# Altium footprint library PMEG1020EH.PcbLib: 3 footprints
Each footprint in its own frame and in the unit in brackets; x right, y up, seen from the top. Pads: shape width x height; smd on the part's side, far side on the other; paste and mask are expansions set on the pad; w line width, h text height; cw(c..) or ccw(c..) is an arc to the next point about the centre after c.
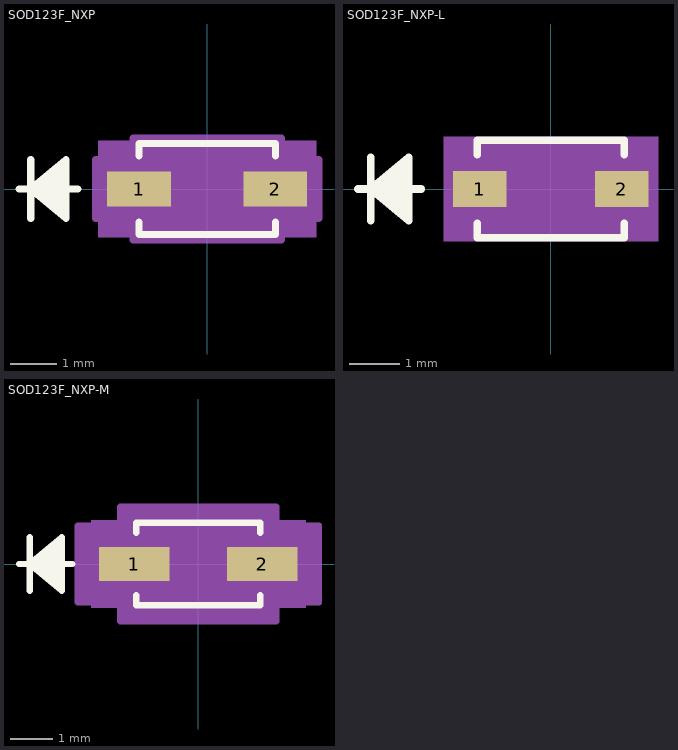
[diagram p0: the footprints below, top view; thin cyan lines are the x and y axes]

## SOD123F_NXP [mil]
pads (2):
  rect 54x30 smd paste+0 mask+0: 1(-58,0) 2(58,0)
Top Overlay:
  lines w6: -160,0 -110,0 ; -150,-25 -150,25 ; -120,-20 -150,0 ; -120,-15 -150,0 ; -120,-10 -150,0 ; -120,-5 -150,0 ; -120,5 -150,0 ; -120,10 -150,0 ; -120,15 -150,0 ; -120,20 -150,0 ; -58,-28.1 -58,-38.5 58,-38.5 58,-28.1 ; -58,28.1 -58,38.5 58,38.5 58,28.1 ; -150,0 -120,25 -120,-25 -150,0
Mechanical 5:
  region: 92.5,-41 -92.5,-41 -92.5,41 92.5,41
Mechanical 13:
  lines w1: -160,0 -110,0 ; -150,-25 -150,25 ; -120,-20 -150,0 ; -120,-15 -150,0 ; -120,-10 -150,0 ; -120,-5 -150,0 ; -120,5 -150,0 ; -120,10 -150,0 ; -120,15 -150,0 ; -120,20 -150,0 ; -53,-16.75 -36.25,-33.5 ; -53,16.75 -36.25,33.5 ; -150,0 -120,25 -120,-25 -150,0 ; -71,-14 -71,14 -53,14 -53,-14 -71,-14 ; -53,-33.5 53,-33.5 53,33.5 -53,33.5 -53,-33.5 ; 53,-14 53,14 71,14 71,-14 53,-14
Mechanical 15:
  region: -63,-25 -95,-25 -95,25 -63,25 -63,43.5 63,43.5 63,25 95,25 95,-25 63,-25 63,-43.5 -63,-43.5
  lines w6: -95,-25 -95,25 -63,25 -63,43.5 63,43.5 63,25 95,25 95,-25 63,-25 63,-43.5 -63,-43.5 -63,-25 -95,-25
3D body "SOD123F_NXP.step": height 47.09, standoff 0, extent -70.98,-33.5 70.98,33.5

## SOD123F_NXP-L [mil]
pads (2):
  rect 42x28 smd paste+0 mask+0: 1(-56,0) 2(56,0)
Top Overlay:
  lines w6: -152,0 -102,0 ; -142,-25 -142,25 ; -112,-20 -142,0 ; -112,-15 -142,0 ; -112,-10 -142,0 ; -112,-5 -142,0 ; -112,5 -142,0 ; -112,10 -142,0 ; -112,15 -142,0 ; -112,20 -142,0 ; -58,-27.1 -58,-38.5 58,-38.5 58,-27.1 ; -58,27.1 -58,38.5 58,38.5 58,27.1 ; -142,0 -112,25 -112,-25 -142,0
Mechanical 5:
  region: 84.5,-41 -84.5,-41 -84.5,41 84.5,41
Mechanical 13:
  lines w1: -152,0 -102,0 ; -142,-25 -142,25 ; -112,-20 -142,0 ; -112,-15 -142,0 ; -112,-10 -142,0 ; -112,-5 -142,0 ; -112,5 -142,0 ; -112,10 -142,0 ; -112,15 -142,0 ; -112,20 -142,0 ; -53,-16.75 -36.25,-33.5 ; -53,16.75 -36.25,33.5 ; -142,0 -112,25 -112,-25 -142,0 ; -71,-14 -71,14 -53,14 -53,-14 -71,-14 ; -53,-33.5 53,-33.5 53,33.5 -53,33.5 -53,-33.5 ; 53,-14 53,14 71,14 71,-14 53,-14
Mechanical 15:
  region: -57,-18 -81,-18 -81,18 -57,18 -57,37.5 57,37.5 57,18 81,18 81,-18 57,-18 57,-37.5 -57,-37.5
  lines w6: -81,-18 -81,18 -57,18 -57,37.5 57,37.5 57,18 81,18 81,-18 57,-18 57,-37.5 -57,-37.5 -57,-18 -81,-18
3D body "SOD123F_NXP.step": height 47.09, standoff 0, extent -70.98,-33.5 70.98,33.5

## SOD123F_NXP-M [mil]
pads (2):
  rect 66x32 smd paste+0 mask+0: 1(-60,0) 2(60,0)
Top Overlay:
  lines w6: -168,0 -118,0 ; -158,-25 -158,25 ; -128,-20 -158,0 ; -128,-15 -158,0 ; -128,-10 -158,0 ; -128,-5 -158,0 ; -128,5 -158,0 ; -128,10 -158,0 ; -128,15 -158,0 ; -128,20 -158,0 ; -58,-29.1 -58,-38.5 58,-38.5 58,-29.1 ; -58,29.1 -58,38.5 58,38.5 58,29.1 ; -158,0 -128,25 -128,-25 -158,0
Mechanical 5:
  region: 100.5,-41 -100.5,-41 -100.5,41 100.5,41
Mechanical 13:
  lines w1: -168,0 -118,0 ; -158,-25 -158,25 ; -128,-20 -158,0 ; -128,-15 -158,0 ; -128,-10 -158,0 ; -128,-5 -158,0 ; -128,5 -158,0 ; -128,10 -158,0 ; -128,15 -158,0 ; -128,20 -158,0 ; -53,-16.75 -36.25,-33.5 ; -53,16.75 -36.25,33.5 ; -158,0 -128,25 -128,-25 -158,0 ; -71,-14 -71,14 -53,14 -53,-14 -71,-14 ; -53,-33.5 53,-33.5 53,33.5 -53,33.5 -53,-33.5 ; 53,-14 53,14 71,14 71,-14 53,-14
Mechanical 15:
  region: -73,-36 -113,-36 -113,36 -73,36 -73,53.5 73,53.5 73,36 113,36 113,-36 73,-36 73,-53.5 -73,-53.5
  lines w6: -113,-36 -113,36 -73,36 -73,53.5 73,53.5 73,36 113,36 113,-36 73,-36 73,-53.5 -73,-53.5 -73,-36 -113,-36
3D body "SOD123F_NXP.step": height 47.09, standoff 0, extent -70.98,-33.5 70.98,33.5